# Altium footprint library Cap_Sensor_8x8.PcbLib: 11 footprints
Each footprint in its own frame and in the unit in brackets; x right, y up, seen from the top. Pads: shape width x height; smd on the part's side, far side on the other; paste and mask are expansions set on the pad; w line width, h text height; cw(c..) or ccw(c..) is an arc to the next point about the centre after c.
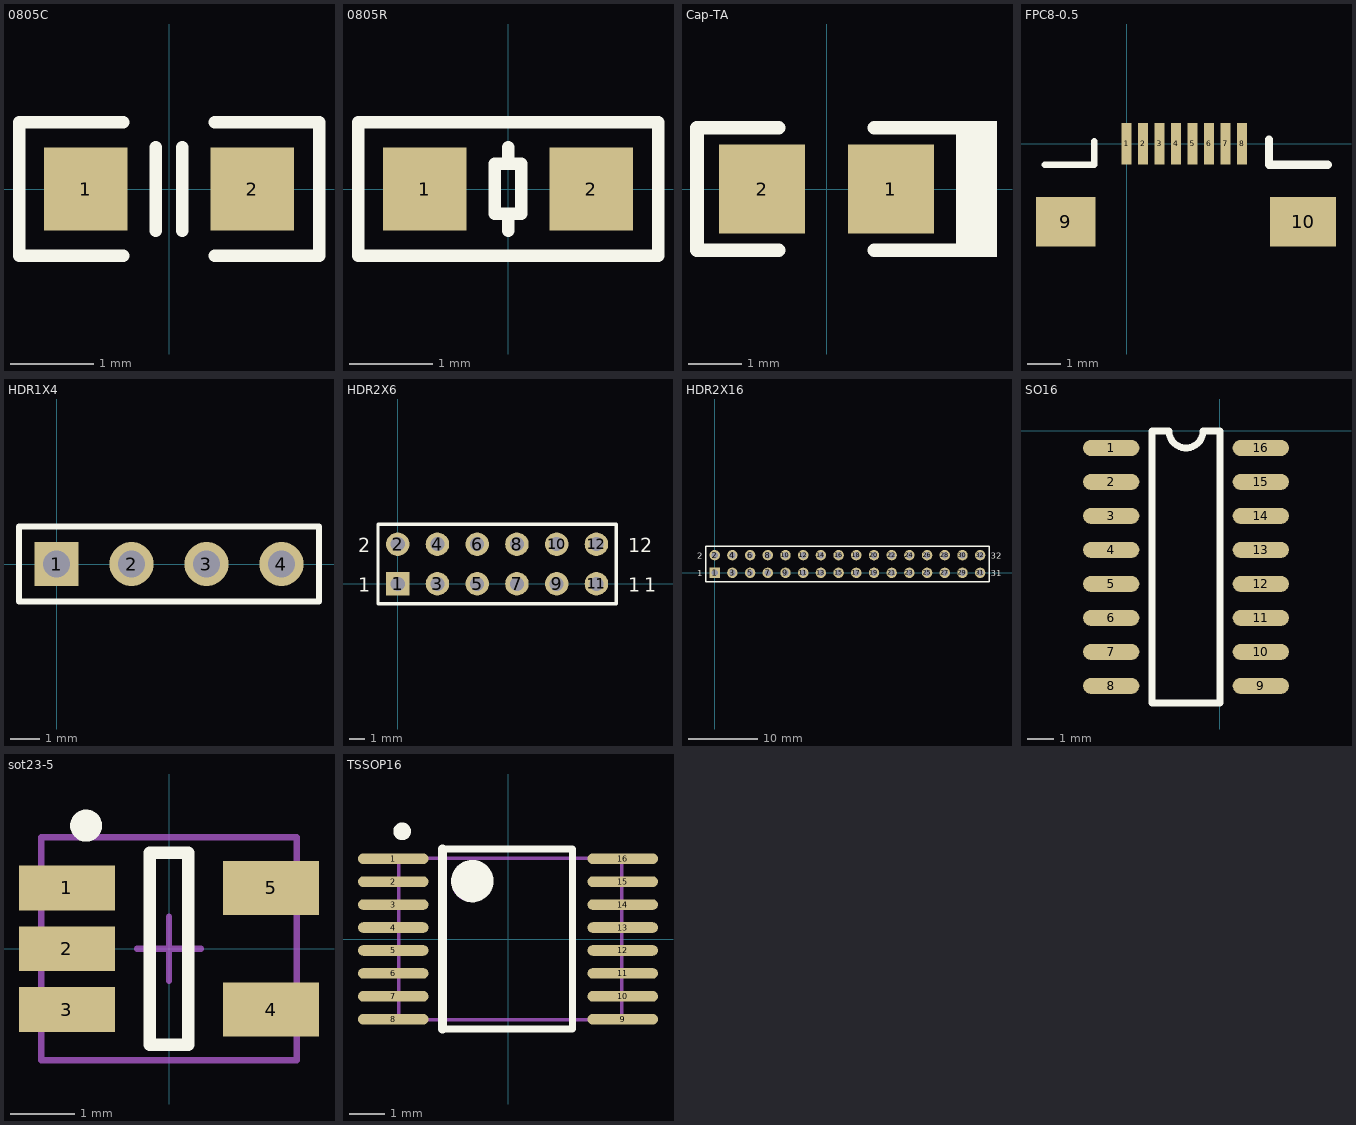
[diagram p0: the footprints below, top view; thin cyan lines are the x and y axes]

## 0603R [mm]

## 0805C [mm]
height 1.1
pads (2):
  rect 1x1 smd: 1(-1,0) 2(1,0)
Top Overlay:
  lines w0.15: -0.55,-0.8 -1.8,-0.8 -1.8,0.8 -0.55,0.8 ; -0.16,-0.5 -0.16,0.5 ; 0.16,-0.5 0.16,0.5 ; 0.55,-0.8 1.8,-0.8 1.8,0.8 0.55,0.8
3D body "0805C.step": height 0.92, standoff 0, extent -1.008,-0.625 1.002,0.625

## 0805R [mm]
height 0.65
pads (2):
  rect 1x1 smd: 1(-1,0) 2(1,0)
Top Overlay:
  lines w0.15: 0,-0.5 0,-0.3 ; 0,0.3 0,0.5 ; -1.8,-0.8 1.8,-0.8 1.8,0.8 -1.8,0.8 -1.8,-0.8 ; -0.16,-0.3 0.16,-0.3 0.16,0.3 -0.16,0.3 -0.16,-0.3
3D body "R0805.STEP": height 0.55, standoff 0, extent -1,-0.63 1,0.63

## Cap-TA [mm]
pads (2):
  rect 1.6x1.65 smd: 1(1.2,0) 2(-1.2,0)
Top Overlay:
  rectangle: 2.413,-1.27 3.175,1.27
  lines w0.254: -0.889,-1.143 -2.413,-1.143 -2.413,1.143 -0.889,1.143 ; 0.889,-1.143 2.794,-1.143 ; 0.889,1.143 2.794,1.143
3D body "Cap-TA.step": height 1.61, standoff 0, extent -1.595,-0.8 1.595,0.8

## FPC8-0.5 [mm]
pads (10):
  rect 0.3x1.25 smd: 1(0,0) 2(0.5,0) 3(1,0) 4(1.5,0) 5(2,0) 6(2.5,0) 7(3,0) 8(3.5,0)
  rect 1.8x1.5 smd: 9(-1.85,-2.375)
  rect 2x1.5 smd: 10(5.35,-2.375)
Top Overlay:
  lines w0.203: -2.484,-0.635 -0.984,-0.635 -0.984,0.065
  lines w0.254: 4.318,0.127 4.318,-0.635 6.096,-0.635

## HDR1X4 [mm] "Connector; Header; 4 Position"
pads (4):
  rect 1.5x1.5 hole 0.9: 1(0,0)
  round 1.5 hole 0.9: 2(2.54,0) 3(5.08,0) 4(7.62,0)
Top Overlay:
  lines w0.2: -1.27,-1.27 8.89,-1.27 8.89,1.27 -1.27,1.27 -1.27,-1.27

## HDR2X6 [mm] "Connector; Header; 6x2 Position"
pads (12):
  rect 1.5x1.5 hole 0.9: 1(0,0)
  round 1.5 hole 0.9: 2(0,2.54) 3(2.54,0) 4(2.54,2.54) 5(5.08,0) 6(5.08,2.54) 7(7.62,0) 8(7.62,2.54) 9(10.16,0) 10(10.16,2.54) 11(12.7,0) 12(12.7,2.54)
Top Overlay:
  lines w0.2: -1.27,-1.27 13.97,-1.27 13.97,3.81 -1.27,3.81 -1.27,-1.27
  text "12" at 14.732,2.032 h0.89
  text "1" at 15.748,-0.508 h0.89
  text "1" at 14.732,-0.508 h0.89
  text "1" at -2.54,-0.508 h0.89
  text "2" at -2.54,2.032 h0.89

## HDR2X16 [mm] "Connector; Header; 16x2 Position"
pads (32):
  rect 1.5x1.5 hole 0.9: 1(0,0)
  round 1.5 hole 0.9: 2(0,2.54) 3(2.54,0) 4(2.54,2.54) 5(5.08,0) 6(5.08,2.54) 7(7.62,0) 8(7.62,2.54) 9(10.16,0) 10(10.16,2.54) 11(12.7,0) 12(12.7,2.54) 13(15.24,0) 14(15.24,2.54) 15(17.78,0) 16(17.78,2.54) 17(20.32,0) 18(20.32,2.54) 19(22.86,0) 20(22.86,2.54) 21(25.4,0) 22(25.4,2.54) 23(27.94,0) 24(27.94,2.54) 25(30.48,0) 26(30.48,2.54) 27(33.02,0) 28(33.02,2.54) 29(35.56,0) 30(35.56,2.54) 31(38.1,0) 32(38.1,2.54)
Top Overlay:
  lines w0.2: -1.27,-1.27 -1.27,3.81 39.37,3.81 39.37,-1.27 -1.27,-1.27
  text "32" at 39.624,2.032 h0.89
  text "31" at 39.624,-0.508 h0.89
  text "1" at -2.54,-0.508 h0.89
  text "2" at -2.54,2.032 h0.89

## SO16 [mm]
pads (16):
  oval 2.1x0.6 smd: 1(-4.064,-0.635) 2(-4.064,-1.905) 3(-4.064,-3.175) 4(-4.064,-4.445) 5(-4.064,-5.715) 6(-4.064,-6.985) 7(-4.064,-8.255) 8(-4.064,-9.525) 9(1.524,-9.525) 10(1.524,-8.255) 11(1.524,-6.985) 12(1.524,-5.715) 13(1.524,-4.445) 14(1.524,-3.175) 15(1.524,-1.905) 16(1.524,-0.635)
Top Overlay:
  lines w0.254: -2.54,-10.16 -2.54,0 -1.905,0 ccw(c-1.27,0) -0.635,0 0,0 0,-10.16 -2.54,-10.16

## sot23-5 [mm]
pads (5):
  rect 1.5x0.7 smd: 1(-1.595,0.95) 2(-1.595,0) 3(-1.595,-0.95)
  rect 1.5x0.85 smd: 4(1.595,-0.95) 5(1.595,0.95)
Top Overlay:
  circle w0.25: c-1.295,1.925 r0.125
  lines w0.2: -0.3,-1.5 0.3,-1.5 0.3,1.5 -0.3,1.5 -0.3,-1.5
Mechanical 15:
  lines w0.1: -0.5,0 0.5,0 ; 0,-0.5 0,0.5 ; -2,-1.745 -2,1.745 2,1.745 2,-1.745 -2,-1.745
3D body "User Library-SOT23-5.STEP": height 1.09, standoff -0.01, extent -1.395,-1.46 1.406,1.44

## TSSOP16 [mm]
pads (16):
  oval 2x0.3 smd: 1(-3.25,2.275) 2(-3.25,1.625) 3(-3.25,0.975) 4(-3.25,0.325) 5(-3.25,-0.325) 6(-3.25,-0.975) 7(-3.25,-1.625) 8(-3.25,-2.275) 9(3.25,-2.275) 10(3.25,-1.625) 11(3.25,-0.975) 12(3.25,-0.325) 13(3.25,0.325) 14(3.25,0.975) 15(3.25,1.625) 16(3.25,2.275)
Top Overlay:
  circle w0.25: c-3,3.05 r0.125
  circle w0.6: c-1.01,1.64 r0.3
  lines w0.2: -1.853,-2.55 1.83,-2.55 1.83,2.55 -1.853,2.55
  lines w0.254: -1.853,-2.55 -1.853,2.55
Mechanical 13:
  circle w0.1: c-1.05,1.6 r0.5
  lines w0.1: -1.853,-2.55 -1.853,2.55 1.83,2.55 1.83,-2.55 -1.853,-2.55
Mechanical 15:
  lines w0.1: -3.1,-2.286 -3.1,2.286 3.227,2.286 3.227,-2.286 -3.1,-2.286
3D body "TSSOP-16.STEP": height 1.45, standoff 0.02, extent -2.85,-2.56 2.85,2.54